# EAGLE library part IRF7342 (library gost_transistors)
Dual P-channel mosfet SO-8 IRF7342 -55V 0.105R -3.4A FDS4935A -30V 0.023R -7A
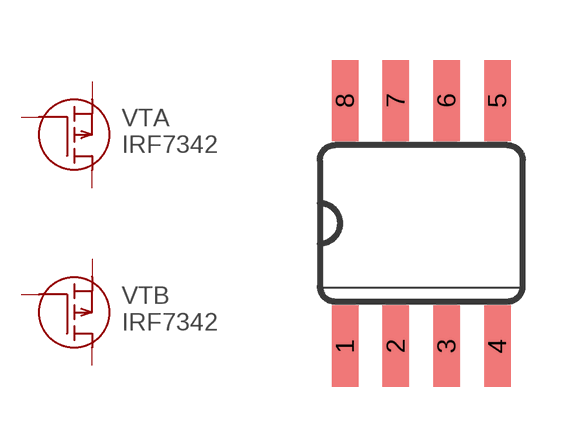
[diagram p1: symbol with the pads of SO08; footprint SO08]

Designator prefix VT; gates A=P-MOSFET B=P-MOSFET

## IRF7342  [SO08]
1  A:S  pas
2  A:G  pas
3  B:S  pas
4  B:G  pas
5  B:D  pas
6  B:D  pas
7  A:D  pas
8  A:D  pas

## Footprint SO08 (pad centres in mm)
Small Outline package 8 150 mil
smd 0.66 x 2.032: 1 -1.905,-3.073; 2 -0.635,-3.073; 3 0.635,-3.073; 4 1.905,-3.073; 5 1.905,3.073; 6 0.635,3.073; 7 -0.635,3.073; 8 -1.905,3.073